# Altium integrated library XT60-M.IntLib: 1 symbol
Pins are listed as number, name and electrical type; pins without a type are passive.

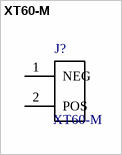
[diagram p0: symbol XT60-M]

## XT60-M
designator J?
/ Plug; DC supply; XT60; male; PIN: 2; for cable; soldered; 30A; 500V /; MF: AMASS; Availability: Unavailable; Package: Package Analog Devices; MP: XT60-M; Price: None; SnapEDA_Link: https://www.snapeda.com/parts/XT60-M/AMASS/view-part/2883912/?ref=snap; Value: *
footprint *AMASS_XT60-M
pins: 1 NEG, 2 POS